# Altium schematic symbol library BMI088 IMU.SchLib: 1 symbol
Pins are listed as number, name and electrical type; pins without a type are passive.

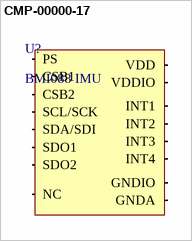
[diagram p0: symbol CMP-00000-17]

## CMP-00000-17
designator U?, comment BMI088 IMU
BMI088 IMU General Use; ComponentLink1URL: https://theflametrench.com/shop/bmi088-standalone-sensor; ComponentLink1Description: Supplier
footprint BMI088 IMU-Footprint-1
pins: 1 INT2 (io) "Accelerometer Interrupt #2", 2 NC (power) "No Connect", 3 VDD (power) "2.4-3.6V Input", 4 GNDA (power) "Analog Ground", 5 CSB2 (io) "SPI Gyro Chip Select", 6 GNDIO (power) "I/O Ground", 7 PS (io) "Protocol Select", 8 SCL/SCK (io) "I2C SCL / SPI SCK", 9 SDA/SDI (io) "I2C SDA / SPI SDI", 10 SDO2 (io) "SPI Gyro Serial Data Out", 11 VDDIO (power) "1.2-3.6V Input", 12 INT3 (io) "Gyro Interrupt #1", 13 INT4 (io) "Gyro Interrupt #2", 14 CSB1 (io) "SPI Accelerometer Chip Select", 15 SDO1 (io) "SPI Accelerometer Serial Data Out", 16 INT1 (io) "Accelerometer Interrupt #1"